# Altium footprint library lab03.PcbLib: 6 footprints
Each footprint in its own frame and in the unit in brackets; x right, y up, seen from the top. Pads: shape width x height; smd on the part's side, far side on the other; paste and mask are expansions set on the pad; w line width, h text height; cw(c..) or ccw(c..) is an arc to the next point about the centre after c.
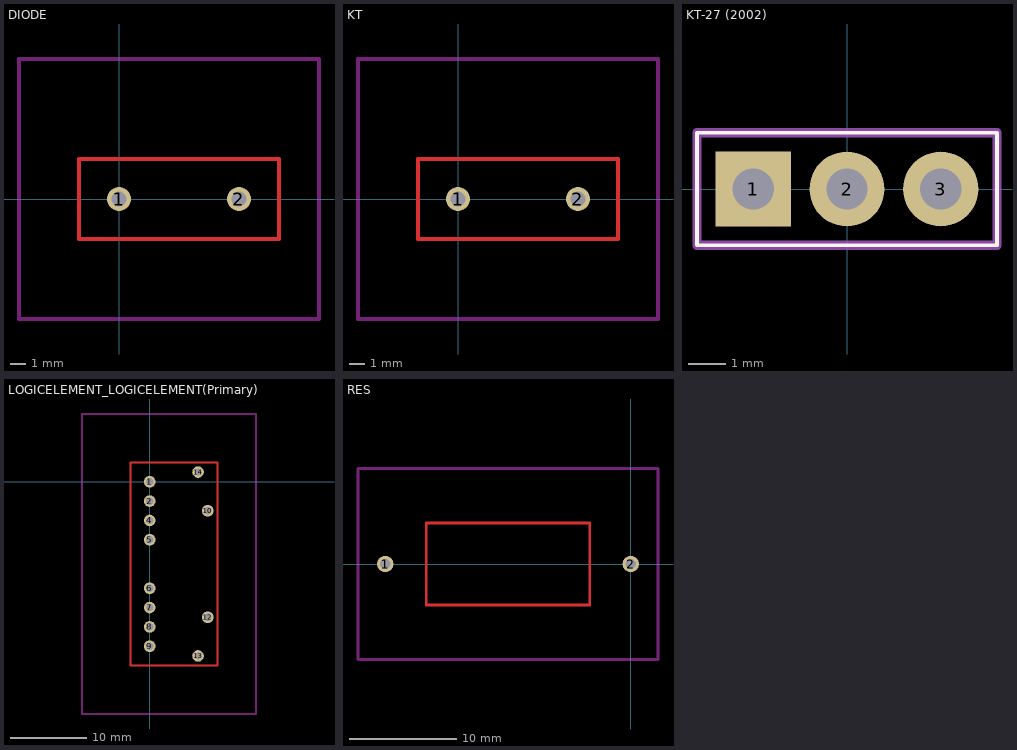
[diagram p0: the footprints below, top view; thin cyan lines are the x and y axes]

## DIODE [mil]
pads (2):
  round 60 hole 38: 1(0,0) 2(300,0)
Top Layer:
  lines w10: -100,-100 400,-100 400,100 -100,100 -100,-100
Top Layer keep-out:
  lines w10: -250,-300 500,-300 500,350 -250,350 -250,-300

## KT [mil]
pads (2):
  round 60 hole 38: 1(0,0) 2(300,0)
Top Layer:
  lines w10: -100,-100 400,-100 400,100 -100,100 -100,-100
Top Layer keep-out:
  lines w10: -250,-300 500,-300 500,350 -250,350 -250,-300

## KT-27 (2002) [mm]
pads (3):
  rect 2x2 hole 1.1: 1(-2.5,0)
  round 2 hole 1.1: 2(0,0) 3(2.5,0)
Top Overlay:
  lines w0.1: -4,-1.5 4,-1.5 4,1.5 -4,1.5 -4,-1.5
Mechanical 1:
  lines w0.25: -4,-1.5 4,-1.5 4,0 4,1.5 -4,1.5 -4,-1.5

## LOGICELEMENT_LOGICELEMENT(Primary) [mil]
pads (12):
  round 60 hole 38: 1(0,0) 2(0,-100) 4(0,-200) 5(0,-300) 6(0,-550) 7(0,-650) 8(0,-750) 9(0,-850) 10(300,-150) 12(300,-700) 13(250,-900) 14(250,50)
Top Layer:
  lines w10: -100,-950 350,-950 350,100 -100,100 -100,-950
Top Layer keep-out:
  lines w10: -350,-1200 550,-1200 550,350 -350,350 -350,-1200

## PCBComponent_1 [mil]

## RES [mil]
pads (2):
  round 60 hole 38: 1(-900,0) 2(0,0)
Top Layer:
  lines w10: -750,-150 -150,-150 -150,150 -750,150 -750,-150
Top Layer keep-out:
  lines w10: -1000,-350 100,-350 100,350 -1000,350 -1000,-350